# EAGLE library part ATXMEGA64A3/128A3/192A3/256A3- (library atmel-xmega)
XMEGA A3 Microcontroller
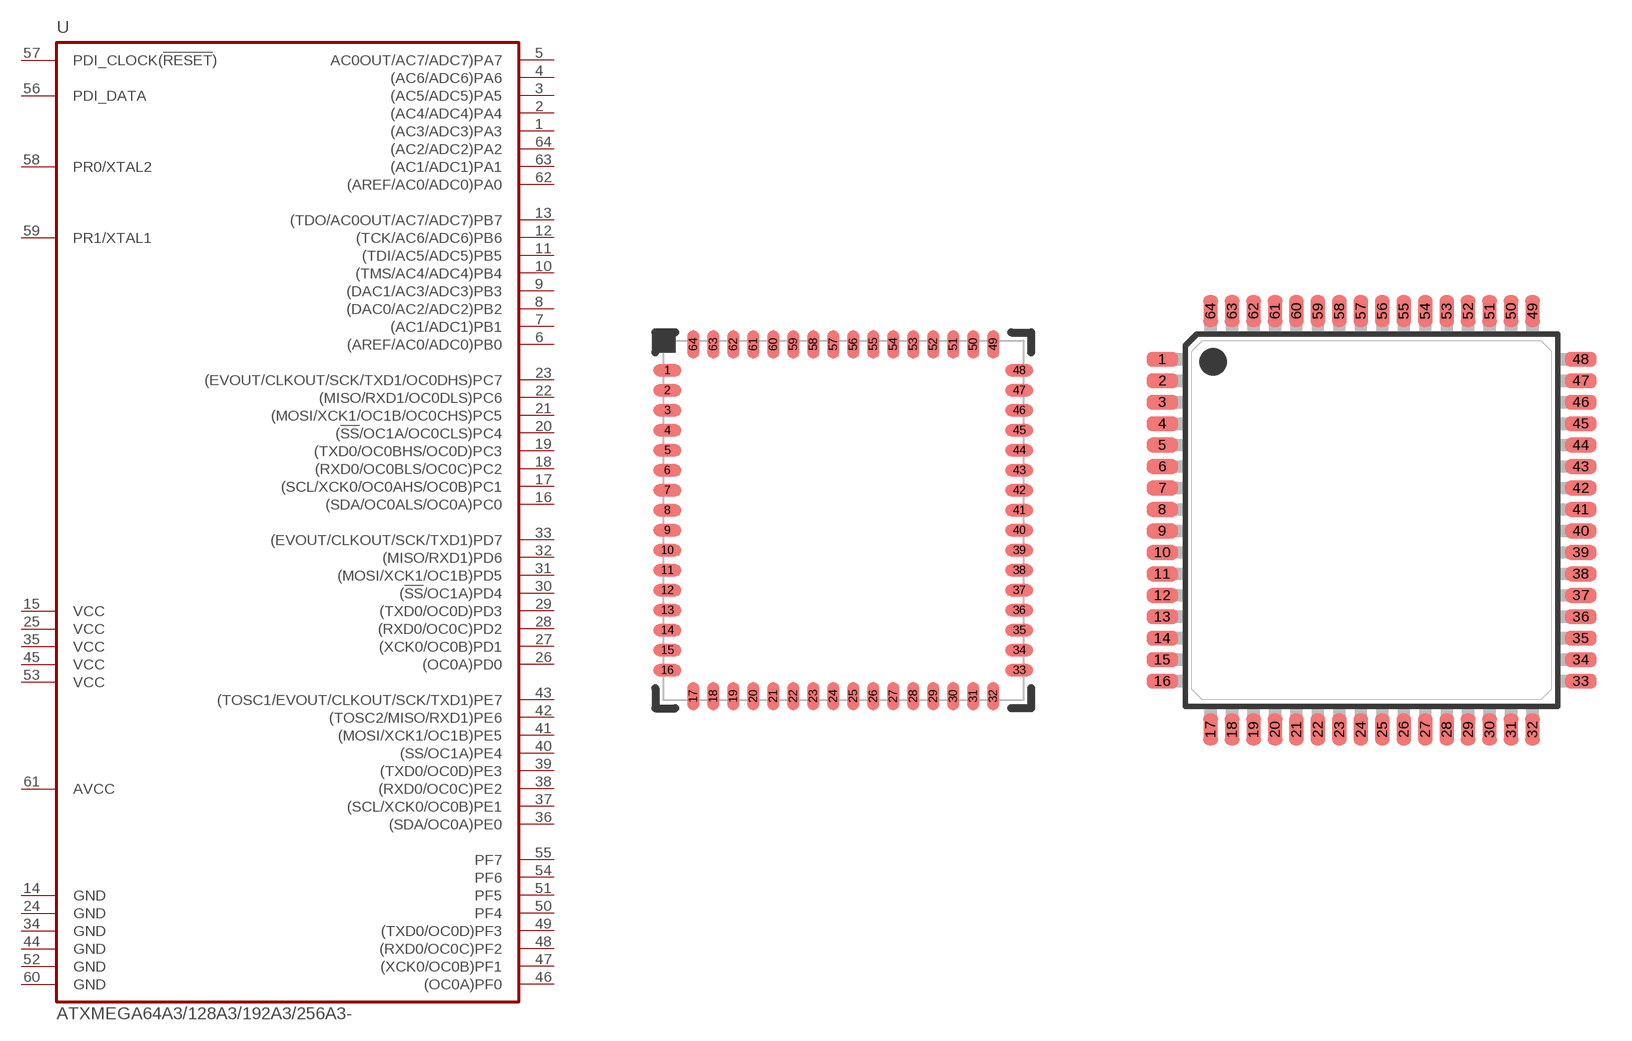
[diagram p1: symbol with the pads of QFN64M2; footprints QFN64M2, TQFP64A]

Designator prefix U

## ATXMEGA64A3/128A3/192A3/256A3-M2  [QFN64M2]
1  (AC3/ADC3)PA3
2  (AC4/ADC4)PA4
3  (AC5/ADC5)PA5
4  (AC6/ADC6)PA6
5  AC0OUT/AC7/ADC7)PA7
6  (AREF/AC0/ADC0)PB0
7  (AC1/ADC1)PB1
8  (DAC0/AC2/ADC2)PB2
9  (DAC1/AC3/ADC3)PB3
10  (TMS/AC4/ADC4)PB4
11  (TDI/AC5/ADC5)PB5
12  (TCK/AC6/ADC6)PB6
13  (TDO/AC0OUT/AC7/ADC7)PB7
14  GND  pwr
15  VCC  pwr
16  (SDA/OC0ALS/OC0A)PC0
17  (SCL/XCK0/OC0AHS/OC0B)PC1
18  (RXD0/OC0BLS/OC0C)PC2
19  (TXD0/OC0BHS/OC0D)PC3
20  (!SS!/OC1A/OC0CLS)PC4
21  (MOSI/XCK1/OC1B/OC0CHS)PC5
22  (MISO/RXD1/OC0DLS)PC6
23  (EVOUT/CLKOUT/SCK/TXD1/OC0DHS)PC7
24  GND  pwr
25  VCC  pwr
26  (OC0A)PD0
27  (XCK0/OC0B)PD1
28  (RXD0/OC0C)PD2
29  (TXD0/OC0D)PD3
30  (!SS!/OC1A)PD4
31  (MOSI/XCK1/OC1B)PD5
32  (MISO/RXD1)PD6
33  (EVOUT/CLKOUT/SCK/TXD1)PD7
34  GND  pwr
35  VCC  pwr
36  (SDA/OC0A)PE0
37  (SCL/XCK0/OC0B)PE1
38  (RXD0/OC0C)PE2
39  (TXD0/OC0D)PE3
40  (SS/OC1A)PE4
41  (MOSI/XCK1/OC1B)PE5
42  (TOSC2/MISO/RXD1)PE6
43  (TOSC1/EVOUT/CLKOUT/SCK/TXD1)PE7
44  GND  pwr
45  VCC  pwr
46  (OC0A)PF0
47  (XCK0/OC0B)PF1
48  (RXD0/OC0C)PF2
49  (TXD0/OC0D)PF3
50  PF4
51  PF5
52  GND  pwr
53  VCC  pwr
54  PF6
55  PF7
56  PDI_DATA
57  PDI_CLOCK(!RESET!)
58  PR0/XTAL2
59  PR1/XTAL1
60  GND  pwr
61  AVCC  pwr
62  (AREF/AC0/ADC0)PA0
63  (AC1/ADC1)PA1
64  (AC2/ADC2)PA2

## ATXMEGA64A3/128A3/192A3/256A3-A  [TQFP64A]
Pads as for QFN64M2

## Footprint QFN64M2 (pad centres in mm)
Quad Flat NoLead Package M2 (QFN) 64-pad, 9 x 9 x 1.0 mm Body, Lead Pitch 0.50 mm, 7.65 mm Exposed Pad
smd 0.7 x 0.3: 1 -4.4,3.75; 2 -4.4,3.25; 3 -4.4,2.75; 4 -4.4,2.25; 5 -4.4,1.75; 6 -4.4,1.25; 7 -4.4,0.75; 8 -4.4,0.25; 9 -4.4,-0.25; 10 -4.4,-0.75; 11 -4.4,-1.25; 12 -4.4,-1.75; 13 -4.4,-2.25; 14 -4.4,-2.75; 15 -4.4,-3.25; 16 -4.4,-3.75; 33 4.4,-3.75; 34 4.4,-3.25; 35 4.4,-2.75; 36 4.4,-2.25; 37 4.4,-1.75; 38 4.4,-1.25; 39 4.4,-0.75; 40 4.4,-0.25; 41 4.4,0.25; 42 4.4,0.75; 43 4.4,1.25; 44 4.4,1.75; 45 4.4,2.25; 46 4.4,2.75; 47 4.4,3.25; 48 4.4,3.75
smd 0.3 x 0.7: 17 -3.75,-4.4; 18 -3.25,-4.4; 19 -2.75,-4.4; 20 -2.25,-4.4; 21 -1.75,-4.4; 22 -1.25,-4.4; 23 -0.75,-4.4; 24 -0.25,-4.4; 25 0.25,-4.4; 26 0.75,-4.4; 27 1.25,-4.4; 28 1.75,-4.4; 29 2.25,-4.4; 30 2.75,-4.4; 31 3.25,-4.4; 32 3.75,-4.4; 49 3.75,4.4; 50 3.25,4.4; 51 2.75,4.4; 52 2.25,4.4; 53 1.75,4.4; 54 1.25,4.4; 55 0.75,4.4; 56 0.25,4.4; 57 -0.25,4.4; 58 -0.75,4.4; 59 -1.25,4.4; 60 -1.75,4.4; 61 -2.25,4.4; 62 -2.75,4.4; 63 -3.25,4.4; 64 -3.75,4.4

## Footprint TQFP64A (pad centres in mm)
Thin Profile Plastic Quad Flat Package (TQFP) 64A, 64-lead, 14 x 14 mm Body Size, 1.0 mm Body Thickness, 0.8 mm Lead Pitch,
smd 1.194 x 0.559: 1 -7.8,6; 2 -7.8,5.2; 3 -7.8,4.4; 4 -7.8,3.6; 5 -7.8,2.8; 6 -7.8,2; 7 -7.8,1.2; 8 -7.8,0.4; 9 -7.8,-0.4; 10 -7.8,-1.2; 11 -7.8,-2; 12 -7.8,-2.8; 13 -7.8,-3.6; 14 -7.8,-4.4; 15 -7.8,-5.2; 16 -7.8,-6; 33 7.8,-6; 34 7.8,-5.2; 35 7.8,-4.4; 36 7.8,-3.6; 37 7.8,-2.8; 38 7.8,-2; 39 7.8,-1.2; 40 7.8,-0.4; 41 7.8,0.4; 42 7.8,1.2; 43 7.8,2; 44 7.8,2.8; 45 7.8,3.6; 46 7.8,4.4; 47 7.8,5.2; 48 7.8,6
smd 0.559 x 1.194: 17 -6,-7.8; 18 -5.2,-7.8; 19 -4.4,-7.8; 20 -3.6,-7.8; 21 -2.8,-7.8; 22 -2,-7.8; 23 -1.2,-7.8; 24 -0.4,-7.8; 25 0.4,-7.8; 26 1.2,-7.8; 27 2,-7.8; 28 2.8,-7.8; 29 3.6,-7.8; 30 4.4,-7.8; 31 5.2,-7.8; 32 6,-7.8; 49 6,7.8; 50 5.2,7.8; 51 4.4,7.8; 52 3.6,7.8; 53 2.8,7.8; 54 2,7.8; 55 1.2,7.8; 56 0.4,7.8; 57 -0.4,7.8; 58 -1.2,7.8; 59 -2,7.8; 60 -2.8,7.8; 61 -3.6,7.8; 62 -4.4,7.8; 63 -5.2,7.8; 64 -6,7.8